# Altium schematic symbol library LTC7060EMSEWPBF.SchLib: 1 symbol
Pins are listed as number, name and electrical type; pins without a type are passive.

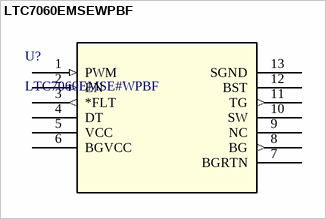
[diagram p0: symbol LTC7060EMSEWPBF]

## LTC7060EMSEWPBF
designator U?, comment LTC7060EMSE#WPBF
100V Half-Bridge Driver with Floating Grounds and Adjustable Dead-Time; Manufacturer_Name: Analog Devices Inc; Copyright: Copyright (C) 2025 Ultra Librarian. All rights reserved.; Manufacturer_Part_Number: LTC7060EMSE#WPBF; Datasheet: https://www.analog.com/media/en/technical-documentation/data-sheets/ltc7060.pdf; RefDes: RefDes; Type: Type
footprint MSOP12_MSE_ADI
pins: 1 PWM (in), 2 EN (in), 3 *FLT (out), 4 DT, 5 VCC (power), 6 BGVCC (power), 7 BGRTN, 8 BG (out), 9 NC, 10 SW, 11 TG (out), 12 BST (power), 13 SGND (power)